# Altium integrated library LitoLibrary.IntLib: 9 symbols
Pins are listed as number, name and electrical type; pins without a type are passive.

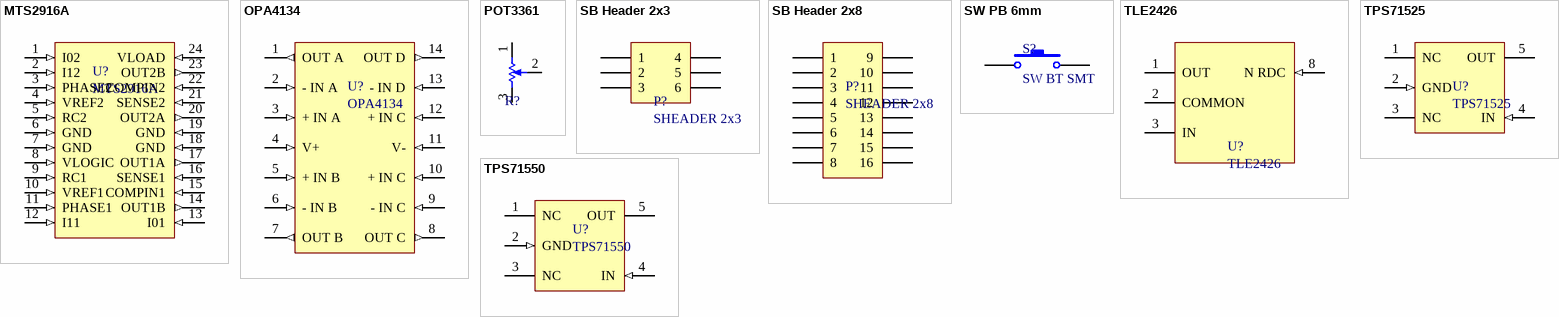
[diagram p0: symbols MTS2916A to TPS71550]

## MTS2916A
designator U?
Dual Full-Bridge Motor Driver
footprint SOIC-24 (Body 10.6mm x 7.6mm max)
pins: 1 I02 (in), 2 I12 (in), 3 PHASE2 (in), 4 VREF2 (in), 5 RC2 (in), 6 GND (in), 7 GND (in), 8 VLOGIC (in), 9 RC1 (in), 10 VREF1 (in), 11 PHASE1 (in), 12 I11 (in), 13 I01 (in), 14 OUT1B (out), 15 COMPIN1 (in), 16 SENSE1 (in), 17 OUT1A (out), 18 GND (in), 19 GND (in), 20 OUT2A (out), 21 SENSE2 (in), 22 COMPIN2 (in), 23 OUT2B (out), 24 VLOAD (in)

## OPA4134
designator U?
footprint SOIC127P600-14M (SOIC, 14-Leads, Body 8.7x3.9mm, Pitch 1.27mm, IPC Low Density)
pins: 1 OUT A (out), 2 - IN A (in), 3 + IN A (in), 4 V+ (in), 5 + IN B (in), 6 - IN B (in), 7 OUT B (out), 8 OUT C (out), 9 - IN C (in), 10 + IN C (in), 11 V- (in), 12 + IN C (in), 13 - IN D (in), 14 OUT D (out)

## POT3361
designator R?  (value not drawn)
Bourns Trimming Potentiometer
footprint 3361P
pins: 1, 2, 3

## SB Header 2x3
designator P?, comment SHEADER 2x3
Shrouded Box Header: 2x3-Pin, 0.100" (2.54 mm) Male
footprint SHBH 2x3 (Shrouded Box Header: 2x3-Pin, 0.100" (2.54 mm) Male)
pins: 1, 2, 3, 4, 5, 6

## SB Header 2x8
designator P?, comment SHEADER 2x8
Shrouded Box Header: 2x8-Pin, 0.100" (2.54 mm) Male
footprint SHBH 2X8 (Shrouded Box Header: 2x8-Pin, 0.100" (2.54 mm) Male)
pins: 1, 2, 3, 4, 5, 6, 7, 8, 9, 10, 11, 12, 13, 14, 15, 16

## SW PB 6mm
designator S?, comment SW BT SMT
Pushbutton Switches FSM2JSMAASTR=6MM TACT SWITCH,
footprint PBOTTON SMT4
pins: 1, 2

## TLE2426
designator U?
Precision Virtual Ground
footprint SOP8 - duplicate
footprint DIP-8
pins: 1 OUT, 2 COMMON, 3 IN, 4 NC hidden, 5 NC hidden, 6 NC hidden, 7 NC hidden, 8 N RDC (in)

## TPS71525
designator U?
footprint SOT353-5L (SOT353, 5-Leads, Body 2x1.3mm, Pitch 0.65mm, Lead Span 2.1mm, IPC High Density)
pins: 1 NC, 2 GND (in), 3 NC, 4 IN (in), 5 OUT

## TPS71550
designator U?
footprint SOT353-5L (SOT353, 5-Leads, Body 2x1.3mm, Pitch 0.65mm, Lead Span 2.1mm, IPC High Density)
pins: 1 NC, 2 GND (in), 3 NC, 4 IN (in), 5 OUT